# Altium schematic symbol library SMBJ24A.SchLib: 1 symbol
Pins are listed as number, name and electrical type; pins without a type are passive.

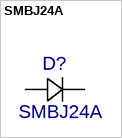
[diagram p0: symbol SMBJ24A]

## SMBJ24A
designator D?
C: Copyright (C) 2015 Accelerated Designs. All rights reserved; Vendor: Bourns Electronics; Built_By: EMA_UL_Team; Manufacturer_Part_Number: SMBJ24A; Value: SMBJ24A
footprint SMB
pins: 1, 2